# EAGLE library part FT5000 (library bontor)
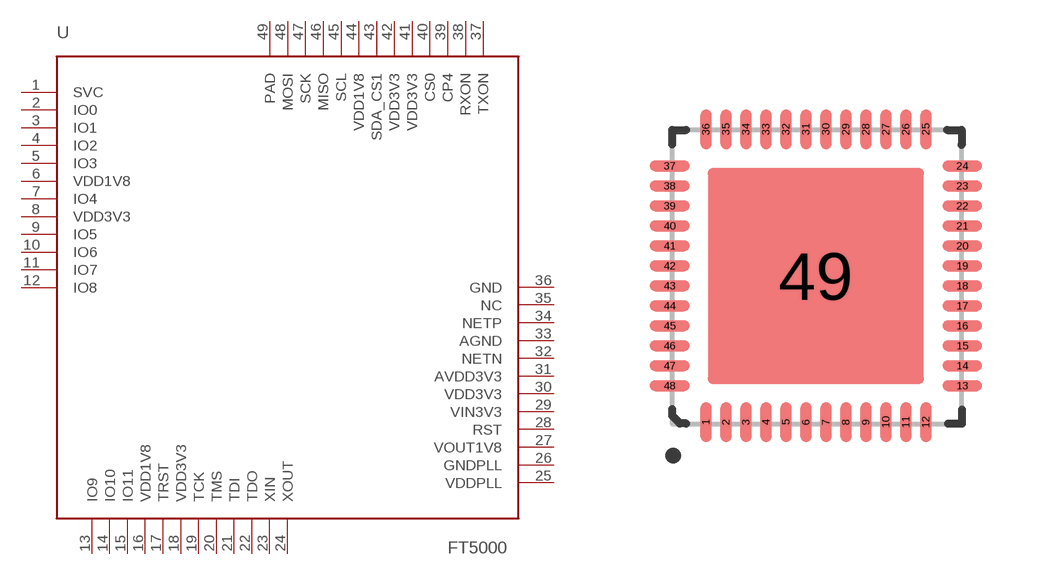
[diagram p3: symbol with the pads of QFN48; footprint QFN48]

Designator prefix -

## FT5000  [QFN48]
1  SVC
2  IO0
3  IO1
4  IO2
5  IO3
6  VDD1V8
7  IO4
8  VDD3V3
9  IO5
10  IO6
11  IO7
12  IO8
13  IO9
14  IO10
15  IO11
16  VDD1V8
17  TRST
18  VDD3V3
19  TCK
20  TMS
21  TDI
22  TDO
23  XIN
24  XOUT
25  VDDPLL
26  GNDPLL
27  VOUT1V8
28  RST
29  VIN3V3
30  VDD3V3
31  AVDD3V3
32  NETN
33  AGND
34  NETP
35  NC
36  GND
37  TXON
38  RXON
39  CP4
40  CS0
41  VDD3V3
42  VDD3V3
43  SDA_CS1
44  VDD1V8
45  SCL
46  MISO
47  SCK
48  MOSI
49  PAD

## Footprint QFN48 (pad centres in mm)
smd 0.28 x 1: 1 -2.65,-3.71; 2 -2.15,-3.71; 3 -1.65,-3.71; 4 -1.15,-3.71; 5 -0.65,-3.71; 6 -0.15,-3.71; 7 0.35,-3.71; 8 0.85,-3.71; 9 1.35,-3.71; 10 1.85,-3.71; 11 2.35,-3.71; 12 2.85,-3.71; 25 2.85,3.62; 26 2.35,3.62; 27 1.85,3.62; 28 1.35,3.62; 29 0.85,3.62; 30 0.35,3.62; 31 -0.15,3.62; 32 -0.65,3.62; 33 -1.15,3.62; 34 -1.65,3.62; 35 -2.15,3.62; 36 -2.65,3.62
smd 1 x 0.28: 13 3.76,-2.8; 14 3.76,-2.3; 15 3.76,-1.8; 16 3.76,-1.3; 17 3.76,-0.8; 18 3.76,-0.3; 19 3.76,0.2; 20 3.76,0.7; 21 3.76,1.2; 22 3.76,1.7; 23 3.76,2.2; 24 3.76,2.7; 37 -3.56,2.7; 38 -3.56,2.2; 39 -3.56,1.7; 40 -3.56,1.2; 41 -3.56,0.7; 42 -3.56,0.2; 43 -3.56,-0.3; 44 -3.56,-0.8; 45 -3.56,-1.3; 46 -3.56,-1.8; 47 -3.56,-2.3; 48 -3.56,-2.8
smd 5.4 x 5.4: 49 0.1,-0.05